# Altium footprint library TB0918516x32x.PcbLib: 1 footprints
Each footprint in its own frame and in the unit in brackets; x right, y up, seen from the top. Pads: shape width x height; smd on the part's side, far side on the other; paste and mask are expansions set on the pad; w line width, h text height; cw(c..) or ccw(c..) is an arc to the next point about the centre after c.
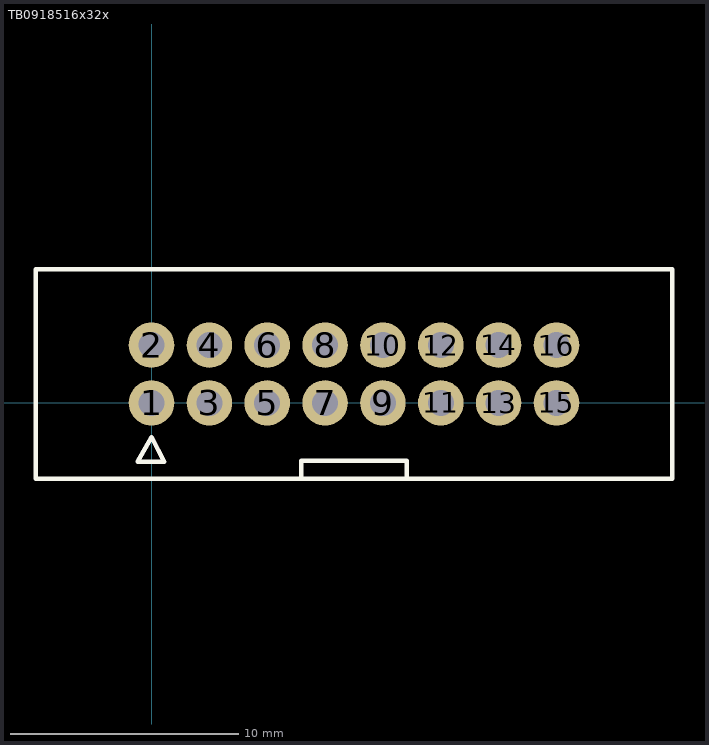
[diagram p0: the footprint, top view; thin cyan lines are the x and y axes]

## TB0918516x32x [mm] "16 pole ribbon cable connector"
pads (16):
  round 2 hole 1.14: 1(0,0) 2(0,2.54) 3(2.54,0) 4(2.54,2.54) 5(5.08,0) 6(5.08,2.54) 7(7.62,0) 8(7.62,2.54) 9(10.16,0) 10(10.16,2.54) 11(12.7,0) 12(12.7,2.54) 13(15.24,0) 14(15.24,2.54) 15(17.78,0) 16(17.78,2.54)
Top Overlay:
  lines w0.2: 6.579,-3.302 6.579,-2.54 11.201,-2.54 11.201,-3.302 ; -5.08,-3.33 22.86,-3.33 22.86,5.87 -5.08,5.87 -5.08,-3.33 ; -0.61,-2.591 0.559,-2.591 0,-1.499 -0.61,-2.591
3D body: height 9.5, standoff -3.15, extent -5.029,-3.556 22.911,5.644